# Altium footprint library Diode_SOD-523_SC-79.PcbLib: 1 footprints
Each footprint in its own frame and in the unit in brackets; x right, y up, seen from the top. Pads: shape width x height; smd on the part's side, far side on the other; paste and mask are expansions set on the pad; w line width, h text height; cw(c..) or ccw(c..) is an arc to the next point about the centre after c.
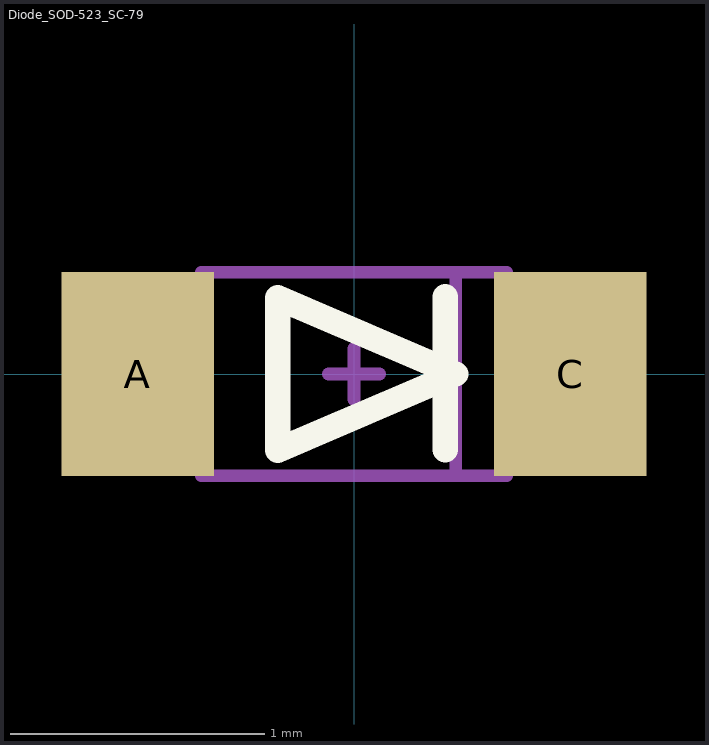
[diagram p0: the footprint, top view; thin cyan lines are the x and y axes]

## Diode_SOD-523_SC-79 [mm] "Diode_SOD-523_SC-79"
height 0.25
pads (2):
  rect 0.6x0.8 smd mask+0.05: A(-0.85,0) C(0.85,0)
Top Overlay:
  lines w0.1: 0.359,-0.297 0.359,0.303 ; -0.3,-0.3 0.4,0 -0.3,0.3 -0.3,-0.3
Top Assembly:
  lines w0.05: 0.4,-0.4 0.4,0.4 ; -0.6,-0.4 -0.6,0.4 0.6,0.4 0.6,-0.4 -0.6,-0.4
Top Designator:
  text ".Designator" at -1.4,-1.275 h1.2
Top Component Center:
  lines w0.05: -0.1,0 0.1,0 ; 0,-0.1 0,0.1
3D body "Diode_SOD-523_SC-79.step": height 0.66, standoff 0, extent -0.825,-0.425 0.825,0.425